# Altium schematic symbol library Altium_Solder_Bridge.SchLib: 8 symbols
Pins are listed as number, name and electrical type; pins without a type are passive.

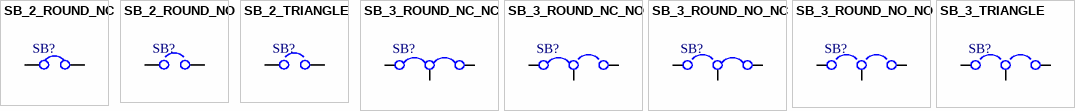
[diagram p0: symbols SB_2_ROUND_NC to SB_3_TRIANGLE]

## SB_2_ROUND_NC
designator SB?, comment Solder bridge open  (value not drawn)  (no BOM)
Solder bridge 2 connection with close at manufacture
footprint JUMPER_SMD_2_ROUND_Nc
pins: 1, 2

## SB_2_ROUND_NO
designator SB?, comment Solder bridge 2 open  (value not drawn)  (no BOM)
Solder bridge 2 connection with open at manufacture
footprint JUMPER_SMD_2_ROUND_NO
pins: 1, 2

## SB_2_TRIANGLE
designator SB?, comment Solder bridge 2 open  (value not drawn)  (no BOM)
Solder bridge 2 connection with open at manufacture
footprint JUMPER_SMD_2_TRIANGLE
pins: 1, 2

## SB_3_ROUND_NC_NC
designator SB?, comment Solder bridge 3 open - open  (value not drawn)  (no BOM)
Solder bridge 3 connection with close - close at manufacture
footprint JUMPER_SMD_3_ROUND_NC_NC
pins: 1, 2, 3

## SB_3_ROUND_NC_NO
designator SB?, comment Solder bridge 3 open - open  (value not drawn)  (no BOM)
Solder bridge 3 connection with close - open at manufacture
footprint JUMPER_SMD_3_ROUND_NC_NO
pins: 1, 2, 3

## SB_3_ROUND_NO_NC
designator SB?, comment Solder bridge 3 open - open  (value not drawn)  (no BOM)
Solder bridge 3 connection with open - close at manufacture
footprint JUMPER_SMD_3_ROUND_NO_NC
pins: 1, 2, 3

## SB_3_ROUND_NO_NO
designator SB?, comment Solder bridge 3 open - open  (value not drawn)  (no BOM)
Solder bridge 3 connection with open - open at manufacture
footprint JUMPER_SMD_3_ROUND_No_No
pins: 1, 2, 3

## SB_3_TRIANGLE
designator SB?, comment Solder bridge 3 open - open  (value not drawn)  (no BOM)
Solder bridge 3 connection with open - open at manufacture
footprint JUMPER_SMD_3_TRIANGLE
pins: 1, 2, 3